# Altium schematic symbol library 1N4007G.SchLib: 1 symbol
Pins are listed as number, name and electrical type; pins without a type are passive.

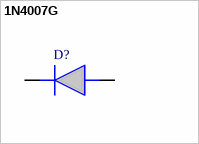
[diagram p0: symbol 1N4007G]

## 1N4007G
designator D?
Surface Mount General Purpose Silicon Rectifiers; Manufacturer_Name: Shikues; Geometry.Height: 2.2mm; Manufacturer_Part_Number: 1N4007G; Mouser Part Number: *; Mouser Price/Stock: *; Arrow Part Number: *; Arrow Price/Stock: *; Mouser Testing Part Number: *; Mouser Testing Price/Stock: *; Datasheet Link: https://datasheet.lcsc.com/szlcsc/SK-1N4007G_C111122.pdf
footprint DIOM5025X220N
pins: 1 K, 2 A